# Altium schematic symbol library TBP04R1-500-02BE.SchLib: 1 symbol
Pins are listed as number, name and electrical type; pins without a type are passive.

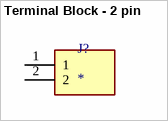
[diagram p0: symbol Terminal Block - 2 pin]

## Terminal Block - 2 pin
designator J?
Terminal Block - Domino - 2 pin; MF: Same Sky; MP: TBP04R1-500-02BE; SnapEDA_Link: https://www.snapeda.com/parts/TBP04R1-500-02BE/Same+Sky/view-part/?ref=snap; Package: None; Value: *; Check_prices: https://www.snapeda.com/parts/TBP04R1-500-02BE/Same+Sky/view-part/?ref=eda
footprint CUI_TBP04R1-500-02BE
pins: 1, 2